# Altium footprint library PCB库2.PcbLib: 108 footprints (part 6 of 7)
Each footprint in its own frame and in the unit in brackets; x right, y up, seen from the top. Pads: shape width x height; smd on the part's side, far side on the other; paste and mask are expansions set on the pad; w line width, h text height; cw(c..) or ccw(c..) is an arc to the next point about the centre after c.
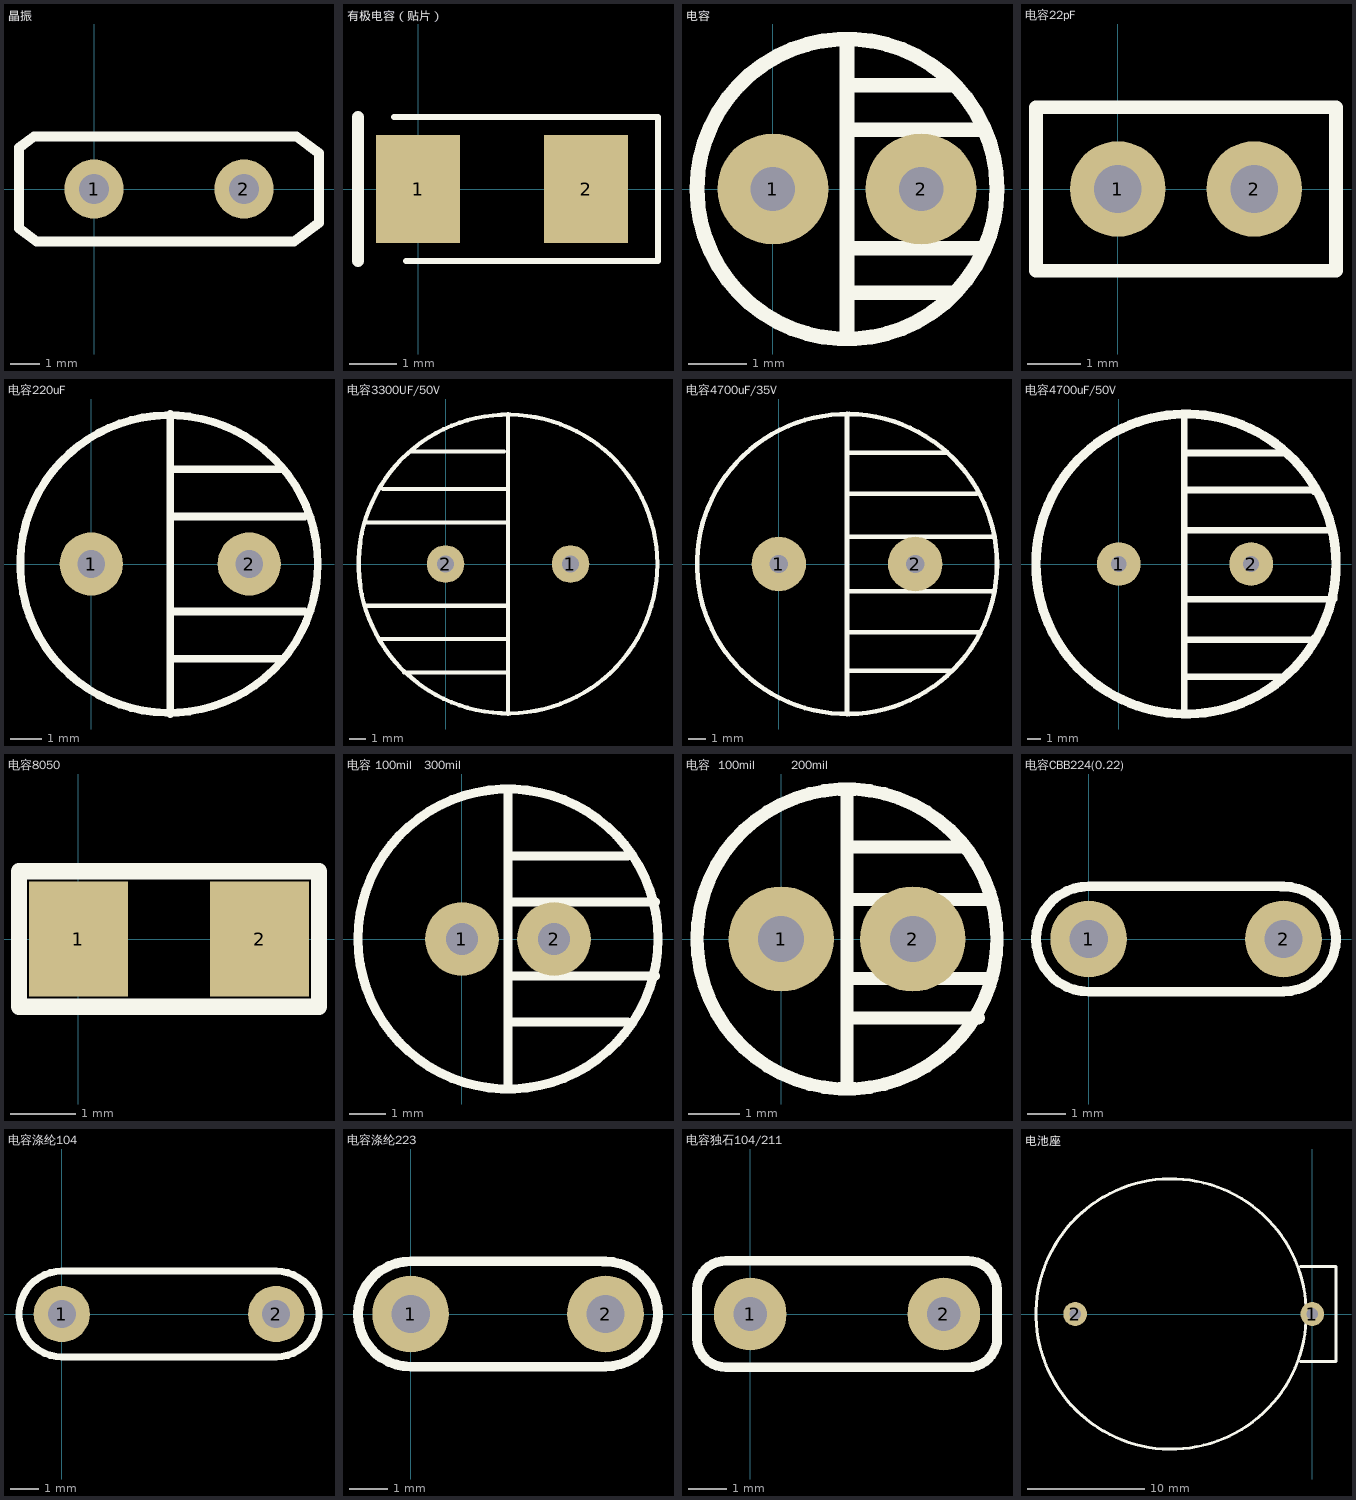
[diagram p5: the footprints below, top view; thin cyan lines are the x and y axes]

## 晶振 [mm]
pads (2):
  round 2 hole 1: 1(0,0) 2(5.08,0)
Top Overlay:
  lines w0.35: -2.54,-1.333 -2.54,1.397 -2.032,1.778 6.858,1.778 7.62,1.206 7.62,-1.143 6.773,-1.778 -1.947,-1.778 -2.54,-1.333

## 有极电容（贴片） [mil]
pads (2):
  rect 70x90 all layers, no hole: 1(0,0) 2(140,0)
Top Overlay:
  lines w5: -20,60 200,60 200,-60 -10,-60
  lines w10: -50,-60 -50,60

## 电容 [mm]
pads (2):
  round 1.9 hole 0.762: 1(0,0) 2(2.54,0)
Top Overlay:
  circle w0.254: c1.27,0 r2.572
  lines w0.254: 1.27,-1.778 3.048,-1.778 ; 1.27,1.016 3.556,1.016 ; 1.27,1.778 3.048,1.778 ; 1.27,2.54 1.27,-2.54 1.27,-1.016 3.556,-1.016

## 电容22pF [mil]
pads (2):
  round 70 hole 35: 1(0,0) 2(100,0)
Top Overlay:
  lines w10: -60,-60 160,-60 160,60 -60,60 -60,-60

## 电容220uF [mil]
pads (2):
  round 80 hole 35: 1(0,0) 2(200,0)
Top Overlay:
  circle w10: c98.45,0 r188.45
  lines w10: 100,-190 100,190 ; 100,-120 240,-120 ; 100,-60 270,-60 ; 100,60 270,60 ; 100,120 240,120

## 电容3300UF/50V [mil]
pads (2):
  round 90 hole 40: 1(300,0) 2(0,0)
Top Overlay:
  circle w10: c150,0 r358.47
  lines w10: -190,-100 150,-100 ; -190,100 150,100 ; -160,-180 150,-180 ; -150,180 150,180 ; -100,-260 150,-260 ; -80,270 140,270 ; 150,-360 150,360

## 电容4700uF/35V [mil]
pads (2):
  round 120 hole 40: 1(0,0) 2(300,0)
Top Overlay:
  circle w10: c150,0 r330
  lines w10: 150,-330 150,330 ; 150,-235 380,-235 ; 150,-150 440,-150 ; 150,-60 475,-60 ; 150,60 470,60 ; 150,155 435,155 ; 150,245 370,245

## 电容4700uF/50V [mil]
pads (2):
  round 130 hole 47.24: 1(0,0) 2(393.7,0)
Top Overlay:
  circle w27.56: c200,0 r446
  lines w19.68: 195,-445 195,445 ; 195,-335 495,-335 495,-330 ; 195,-225 580,-225 580,-220 ; 195,-105 640,-105 640,-90 ; 195,100 635,100 635,105 ; 195,220 580,220 580,215 ; 195,330 495,330 495,335

## 电容8050 [mil]
pads (2):
  rect 60x70 all layers, no hole: 1(0,0) 2(110,0)
Top Overlay:
  lines w10: -36,-41 -36,41 146,41 146,-41 -36,-41

## 电容 100mil   300mil [mil]
pads (2):
  round 80 hole 35: 1(0,0) 2(100,0)
Top Overlay:
  circle w10: c50,0 r162.79
  lines w10: 50,-160 50,160 ; 50,-90 180,-90 ; 50,-40 210,-40 ; 50,40 210,40 ; 50,90 180,90

## 电容  100mil         200mil [mil]
pads (2):
  round 80 hole 35: 1(0,0) 2(100,0)
Top Overlay:
  circle w10: c50,0 r114.02
  lines w10: 50,-110 50,110 ; 50,-60 150,-60 ; 50,-30 160,-30 ; 50,30 160,30 ; 50,70 140,70

## 电容CBB224(0.22) [mm]
pads (2):
  round 2 hole 1: 1(0,0) 2(5.08,0)
Top Overlay:
  lines w0.254: 5.01,1.368 0.003,1.372 ccw(c0,0) 0.003,-1.372 5.08,-1.368 ccw(c5.08,0) 5.08,1.368

## 电容涤纶104 [mm]
pads (2):
  round 2 hole 1: 1(0,0) 2(7.62,0)
Top Overlay:
  lines w0.254: -0.008,-1.524 cw(c0,0) -0.008,1.524 3.683,1.524 7.627,1.524 cw(c7.62,0) 7.627,-1.524 -0.008,-1.524

## 电容涤纶223 [mm]
pads (2):
  round 2 hole 1: 1(0,0) 2(5.08,0)
Top Overlay:
  lines w0.254: 5.01,1.368 0.003,1.372 ccw(c0,0) 0.003,-1.372 5.08,-1.368 ccw(c5.08,0) 5.08,1.368

## 电容独石104/211 [mil]
pads (2):
  round 75 hole 35: 1(0,0) 2(200,0)
Top Overlay:
  lines w10: 225,-55 ccw(c225,-25) 255,-25 ; 230,-55 -25,-55 cw(c-25,-25) -55,-25 -55,25 cw(c-25,25) -25,55 100,55 225,55 cw(c225,25) 255,25 255,-30

## 电池座 [mil]
pads (2):
  round 80 hole 39: 1(0,0) 2(-800,0)
Top Overlay:
  circle w10: c-476.07,0 r456.07
  lines w10: -40,-160 80,-160 80,160 -40,160